# Altium schematic symbol library LM3671-ADJ.SchLib: 1 symbol
Pins are listed as number, name and electrical type; pins without a type are passive.

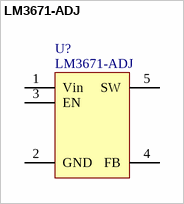
[diagram p0: symbol LM3671-ADJ]

## LM3671-ADJ
designator U?
pins: 1 Vin, 2 GND, 3 EN, 4 FB, 5 SW